# Altium footprint library Connectors.PcbLib: 77 footprints (part 1 of 5)
Each footprint in its own frame and in the unit in brackets; x right, y up, seen from the top. Pads: shape width x height; smd on the part's side, far side on the other; paste and mask are expansions set on the pad; w line width, h text height; cw(c..) or ccw(c..) is an arc to the next point about the centre after c.
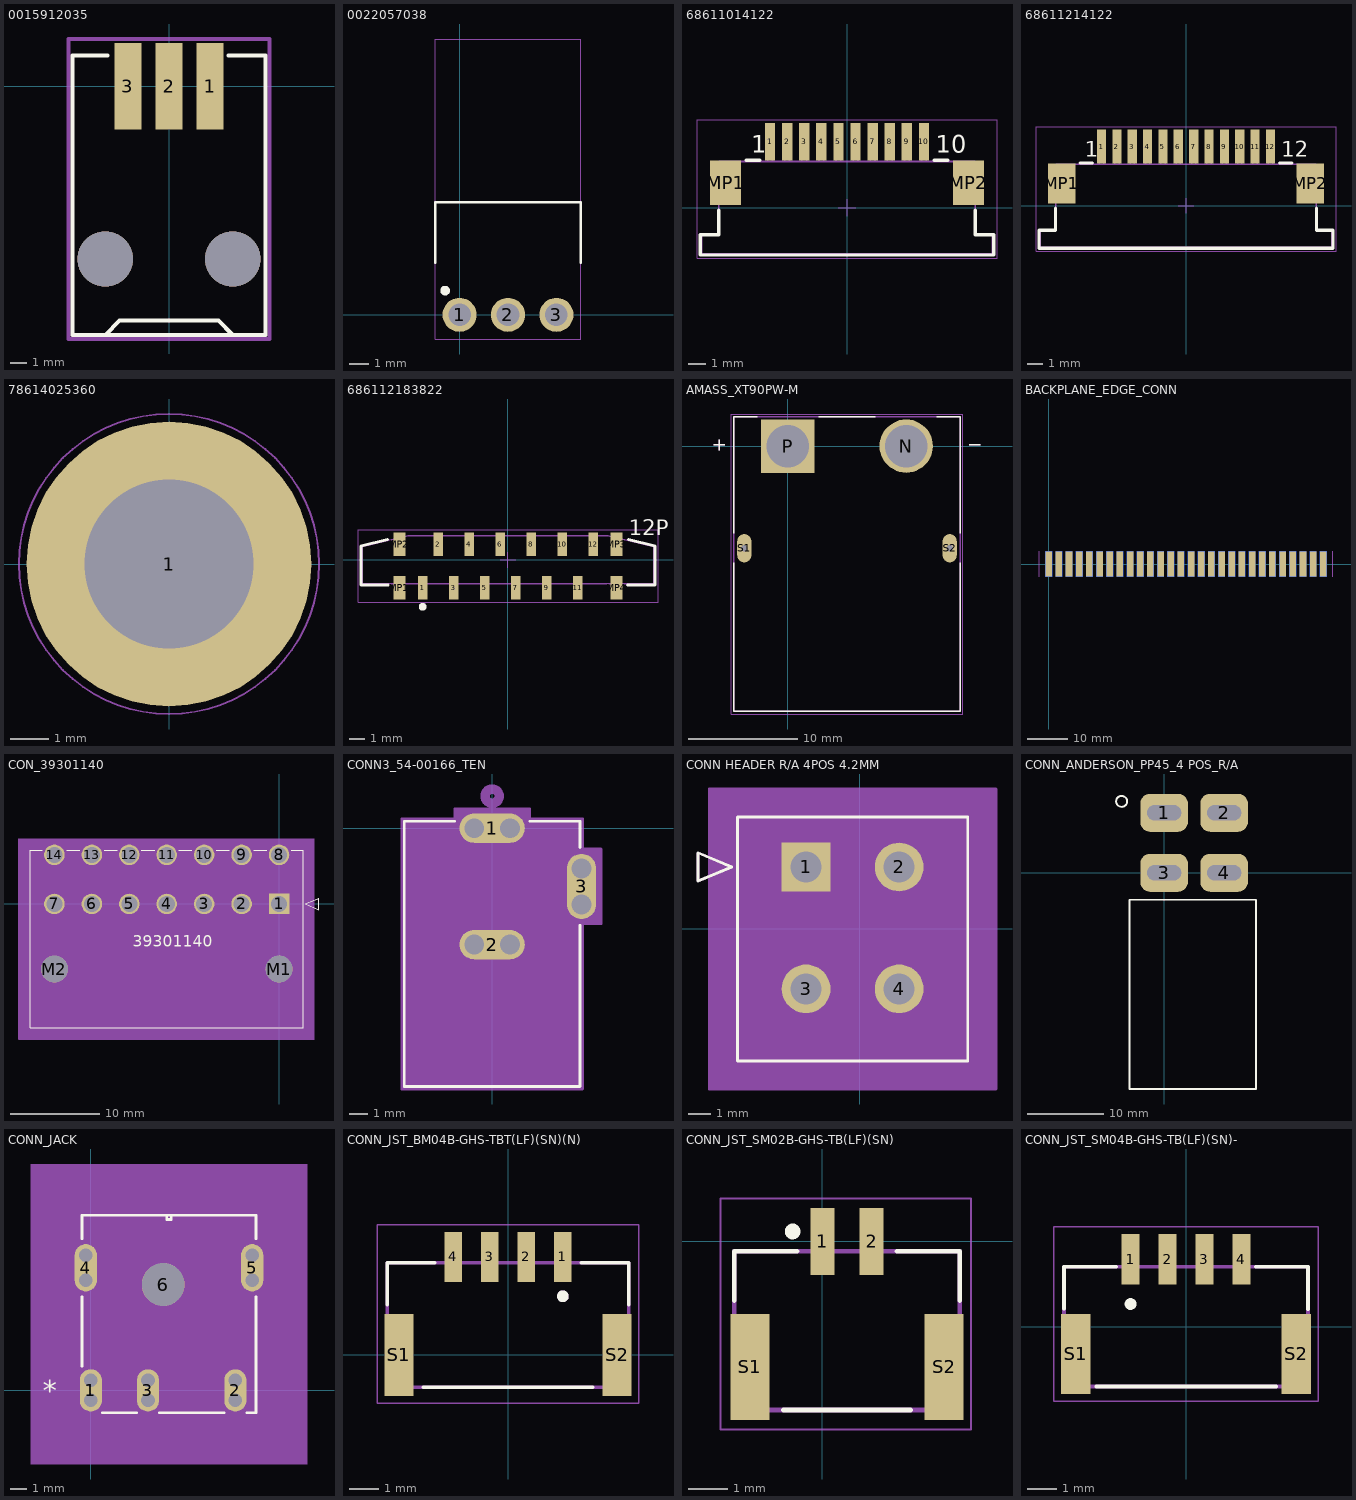
[diagram p0: the footprints below, top view; thin cyan lines are the x and y axes]

## 0015912035 [mm]
pads (3):
  rect 1.65x5.33 smd: 1(2.54,0) 2(0,0) 3(-2.54,0)
via -3.94,-10.69 diameter 3.4 hole 3.4
via 3.94,-10.69 diameter 3.4 hole 3.4
Top Overlay:
  lines w0.254: -3.94,-15.364 -3.934,-15.364 -3.048,-14.478 3.048,-14.478 3.054,-14.478 3.94,-15.364 4.569,-15.364 ; -3.81,1.905 -5.715,1.905 -5.969,1.905 -5.969,-9.779 -5.969,-11.557 -5.969,-15.367 5.969,-15.367 5.969,-11.811 5.969,-9.906 5.969,1.905 3.683,1.905
Boundary:
  lines w0.254: -6.223,-15.621 -6.223,-15.367 -6.223,2.921 6.223,2.921 6.223,-15.621 -6.223,-15.621
3D body "0015912035-rotated.step": height 6.98, standoff -2.31, extent -5.715,-15.088 5.715,1.676

## 0022057038 [mm] "Molex KK 254 Wire-to-Board Header, Right-Angle, w/ Friction Lock, 3 Circuit"
pads (3):
  round 1.79 hole 1.19: 1(0,0) 2(2.54,0) 3(5.08,0)
Top Overlay:
  circle w0.254: c-0.762,1.27 r0.127
  lines w0.127: -1.27,2.72 -1.27,5.9 6.35,5.9 6.35,2.72
Mechanical 15:
  lines w0.05: -1.27,-1.27 6.35,-1.27 6.35,14.478 -1.27,14.478 -1.27,-1.27
3D body "022057038.stp": height 5.85, standoff -3.79, extent -1.27,-0.307 6.35,14.43

## 68611014122 [mm] "ZIF Connectors, Horizontal, Top Contact, pitch 1mm, 10p"
height 3.15
pads (12):
  rect 0.6x2.2 smd: 1(-4.5,3.85) 2(-3.5,3.85) 3(-2.5,3.85) 4(-1.5,3.85) 5(-0.5,3.85) 6(0.5,3.85) 7(1.5,3.85) 8(2.5,3.85) 9(3.5,3.85) 10(4.5,3.85)
  rect 1.8x2.6 smd: MP1(-7.1,1.45) MP2(7.1,1.45)
Top Overlay:
  lines w0.2: -7.5,-0.15 -7.5,-1.6 -8.575,-1.6 -8.575,-2.775 8.575,-2.775 8.575,-1.6 7.5,-1.6 7.5,-0.15 ; -5.9,2.775 -5.1,2.775 ; 5.1,2.775 5.9,2.775
  text "10" at 5.2,3.2 h1.02
  text "1" at -5.6,3.2 h1.02
Mechanical 11:
  lines w0.1: -4.64,2.7 -4.64,4.4 -4.36,4.4 -4.36,2.7 ; -3.64,2.7 -3.64,4.4 -3.36,4.4 -3.36,2.7 ; -2.64,2.7 -2.64,4.4 -2.36,4.4 -2.36,2.7 ; -1.64,2.7 -1.64,4.4 -1.36,4.4 -1.36,2.7 ; -0.64,2.7 -0.64,4.4 -0.36,4.4 -0.36,2.7 ; 0.36,2.7 0.36,4.4 0.64,4.4 0.64,2.7 ; 1.36,2.7 1.36,4.4 1.64,4.4 1.64,2.7 ; 2.36,2.7 2.36,4.4 2.64,4.4 2.64,2.7 ; 3.36,2.7 3.36,4.4 3.64,4.4 3.64,2.7 ; 4.36,2.7 4.36,4.4 4.64,4.4 4.64,2.7 ; -8.5,-2.7 -8.5,-1.6 -7.5,-1.6 -7.5,2.7 7.5,2.7 7.5,-1.6 8.5,-1.6 8.5,-2.7 -8.5,-2.7
  text ".Designator" at -1.75,-0.75 h1.5
Mechanical 13:
  lines w0.1: -4.64,2.7 -4.64,4.4 -4.36,4.4 -4.36,2.7 ; -3.64,2.7 -3.64,4.4 -3.36,4.4 -3.36,2.7 ; -2.64,2.7 -2.64,4.4 -2.36,4.4 -2.36,2.7 ; -1.64,2.7 -1.64,4.4 -1.36,4.4 -1.36,2.7 ; -0.64,2.7 -0.64,4.4 -0.36,4.4 -0.36,2.7 ; 0.36,2.7 0.36,4.4 0.64,4.4 0.64,2.7 ; 1.36,2.7 1.36,4.4 1.64,4.4 1.64,2.7 ; 2.36,2.7 2.36,4.4 2.64,4.4 2.64,2.7 ; 3.36,2.7 3.36,4.4 3.64,4.4 3.64,2.7 ; 4.36,2.7 4.36,4.4 4.64,4.4 4.64,2.7 ; -8.5,-2.7 8.5,-2.7 8.5,-1.6 7.5,-1.6 7.5,2.7 -7.5,2.7 -7.5,-1.6 -8.5,-1.6 -8.5,-2.7
Mechanical 15:
  lines w0.05: -0.5,0 0.5,0 ; 0,-0.5 0,0.5 ; -8.775,-2.975 8.775,-2.975 8.775,5.15 -8.775,5.15 -8.775,-2.975
3D body "68611014122.stp": height 3.02, standoff 0.02, extent -8.5,-2.7 8.5,4.4

## 68611214122 [mm] "ZIF Connectors, Horizontal, Top Contact, pitch 1mm, 12p"
height 3.15
pads (14):
  rect 0.6x2.2 smd: 1(-5.5,3.85) 2(-4.5,3.85) 3(-3.5,3.85) 4(-2.5,3.85) 5(-1.5,3.85) 6(-0.5,3.85) 7(0.5,3.85) 8(1.5,3.85) 9(2.5,3.85) 10(3.5,3.85) 11(4.5,3.85) 12(5.5,3.85)
  rect 1.8x2.6 smd: MP1(-8.1,1.45) MP2(8.1,1.45)
Top Overlay:
  lines w0.2: -8.5,-0.15 -8.5,-1.6 -9.575,-1.6 -9.575,-2.775 9.575,-2.775 9.575,-1.6 8.5,-1.6 8.5,-0.15 ; -6.9,2.775 -6.1,2.775 ; 6.1,2.775 6.9,2.775
  text "12" at 6.2,3.2 h1.02
  text "1" at -6.6,3.2 h1.02
Mechanical 11:
  lines w0.1: -5.64,2.7 -5.64,4.4 -5.36,4.4 -5.36,2.7 ; -4.64,2.7 -4.64,4.4 -4.36,4.4 -4.36,2.7 ; -3.64,2.7 -3.64,4.4 -3.36,4.4 -3.36,2.7 ; -2.64,2.7 -2.64,4.4 -2.36,4.4 -2.36,2.7 ; -1.64,2.7 -1.64,4.4 -1.36,4.4 -1.36,2.7 ; -0.64,2.7 -0.64,4.4 -0.36,4.4 -0.36,2.7 ; 0.36,2.7 0.36,4.4 0.64,4.4 0.64,2.7 ; 1.36,2.7 1.36,4.4 1.64,4.4 1.64,2.7 ; 2.36,2.7 2.36,4.4 2.64,4.4 2.64,2.7 ; 3.36,2.7 3.36,4.4 3.64,4.4 3.64,2.7 ; 4.36,2.7 4.36,4.4 4.64,4.4 4.64,2.7 ; 5.36,2.7 5.36,4.4 5.64,4.4 5.64,2.7 ; -9.5,-2.7 9.5,-2.7 9.5,-1.6 8.5,-1.6 8.5,2.7 -8.5,2.7 -8.5,-1.6 -9.5,-1.6 -9.5,-2.7
  text ".Designator" at -1.75,-0.75 h1.5
Mechanical 13:
  lines w0.1: -5.64,2.7 -5.64,4.4 -5.36,4.4 -5.36,2.7 ; -4.64,2.7 -4.64,4.4 -4.36,4.4 -4.36,2.7 ; -3.64,2.7 -3.64,4.4 -3.36,4.4 -3.36,2.7 ; -2.64,2.7 -2.64,4.4 -2.36,4.4 -2.36,2.7 ; -1.64,2.7 -1.64,4.4 -1.36,4.4 -1.36,2.7 ; -0.64,2.7 -0.64,4.4 -0.36,4.4 -0.36,2.7 ; 0.36,2.7 0.36,4.4 0.64,4.4 0.64,2.7 ; 1.36,2.7 1.36,4.4 1.64,4.4 1.64,2.7 ; 2.36,2.7 2.36,4.4 2.64,4.4 2.64,2.7 ; 3.36,2.7 3.36,4.4 3.64,4.4 3.64,2.7 ; 4.36,2.7 4.36,4.4 4.64,4.4 4.64,2.7 ; 5.36,2.7 5.36,4.4 5.64,4.4 5.64,2.7 ; -9.5,-2.7 -9.5,-1.6 -8.5,-1.6 -8.5,2.7 8.5,2.7 8.5,-1.6 9.5,-1.6 9.5,-2.7 -9.5,-2.7
Mechanical 15:
  lines w0.05: -0.5,0 0.5,0 ; 0,-0.5 0,0.5 ; -9.775,-2.975 -9.775,5.15 9.775,5.15 9.775,-2.975 -9.775,-2.975
3D body "68611214122.stp": height 3.02, standoff 0.02, extent -9.5,-2.7 9.5,4.4

## 78614025360 [mm] "M3 Thread Internal, Length 2.5mm"
height 2.5
pads (1):
  round 7.4 hole 4.4: 1(0,0)
Top Paste:
  region: -3.613,0.4 -2.204,0.4 -2.167,0.566 -2.057,0.886 -1.9,1.186 -1.699,1.46 -1.46,1.699 -1.186,1.9 -0.886,2.057 -0.566,2.167 -0.4,2.204 -0.4,3.613 -0.603,3.59 -1.003,3.5 -1.389,3.365 -1.758,3.188 -2.105,2.97 -2.425,2.715 -2.715,2.426 -2.97,2.106 -3.188,1.759 -3.365,1.39 -3.5,1.003 -3.59,0.604 -3.613,0.4
  region: -0.4,-3.613 -0.4,-2.204 -0.566,-2.167 -0.886,-2.057 -1.186,-1.9 -1.46,-1.699 -1.699,-1.46 -1.9,-1.186 -2.057,-0.886 -2.167,-0.566 -2.204,-0.4 -3.613,-0.4 -3.59,-0.603 -3.5,-1.003 -3.365,-1.389 -3.188,-1.758 -2.97,-2.105 -2.715,-2.425 -2.426,-2.715 -2.106,-2.97 -1.759,-3.188 -1.39,-3.365 -1.003,-3.5 -0.604,-3.59 -0.4,-3.613
  region: 3.613,-0.4 2.204,-0.4 2.167,-0.566 2.057,-0.886 1.9,-1.186 1.699,-1.46 1.46,-1.699 1.186,-1.9 0.886,-2.057 0.566,-2.167 0.4,-2.204 0.4,-3.613 0.603,-3.59 1.003,-3.5 1.389,-3.365 1.758,-3.188 2.105,-2.97 2.425,-2.715 2.715,-2.426 2.97,-2.106 3.188,-1.759 3.365,-1.39 3.5,-1.003 3.59,-0.604 3.613,-0.4
  region: 0.4,3.613 0.4,2.204 0.566,2.167 0.886,2.057 1.186,1.9 1.46,1.699 1.699,1.46 1.9,1.186 2.057,0.886 2.167,0.566 2.204,0.4 3.613,0.4 3.59,0.603 3.5,1.003 3.365,1.389 3.188,1.758 2.97,2.105 2.715,2.425 2.426,2.715 2.106,2.97 1.759,3.188 1.39,3.365 1.003,3.5 0.604,3.59 0.4,3.613
Top 3D Body:
  circle w0.1: c0,0 r3
Top Courtyard:
  circle w0.05: c0,0 r3.9
  lines w0.05: -0.5,0 0.5,0 ; 0,-0.5 0,0.5
Top Component Outline:
  circle w0.1: c0,0 r3
Top Designator:
  text ".Designator" at -7.498,-0.5 h1.5
3D body "78614025360.stp": height 2.5, standoff -1.4, extent -3,-3 3,3

## 686112183822 [mm] "ZIF Connectors, Vertical, Type A, pitch 1mm, 12p"
height 4
pads (16):
  rect 0.6x1.5 smd: 1(-5.5,-1.8) 2(-4.5,1) 3(-3.5,-1.8) 4(-2.5,1) 5(-1.5,-1.8) 6(-0.5,1) 7(0.5,-1.8) 8(1.5,1) 9(2.5,-1.8) 10(3.5,1) 11(4.5,-1.8) 12(5.5,1)
  rect 0.8x1.5 smd: MP1(-7,-1.8) MP2(-7,1) MP3(7,1) MP4(7,-1.8)
Top Overlay:
  circle w0.25: c-5.5,-3.025 r0.125
  lines w0.2: -7.765,1.308 -9.475,0.897 -9.475,-1.625 -7.725,-1.625 ; 7.725,-1.625 9.475,-1.625 9.475,0.897 7.765,1.308
  text "12P" at 7.8,1.6 h1.02
Mechanical 11:
  lines w0.1: -7.2,-1.55 -7.2,-2.05 -6.8,-2.05 -6.8,-1.55 ; -6.45,1.55 6.45,1.55 9.4,0.84 9.4,-1.55 -9.4,-1.55 -9.4,0.84 -6.45,1.549 ; -5.6,-1.55 -5.6,-2.05 -5.4,-2.05 -5.4,-1.55 ; -3.6,-1.55 -3.6,-2.05 -3.4,-2.05 -3.4,-1.55 ; -1.6,-1.55 -1.6,-2.05 -1.4,-2.05 -1.4,-1.55 ; 0.4,-1.55 0.4,-2.05 0.6,-2.05 0.6,-1.55 ; 2.4,-1.55 2.4,-2.05 2.6,-2.05 2.6,-1.55 ; 4.4,-1.55 4.4,-2.05 4.6,-2.05 4.6,-1.55 ; 6.8,-1.55 6.8,-2.05 7.2,-2.05 7.2,-1.55
  text ".Designator" at -1.75,-0.75 h1.5
Mechanical 13:
  lines w0.1: -7.2,-1.55 -7.2,-2.05 -6.8,-2.05 -6.8,-1.55 ; -6.45,1.55 6.45,1.55 9.4,0.84 9.4,-1.55 -9.4,-1.55 -9.4,0.84 -6.45,1.549 ; -5.6,-1.55 -5.6,-2.05 -5.4,-2.05 -5.4,-1.55 ; -3.6,-1.55 -3.6,-2.05 -3.4,-2.05 -3.4,-1.55 ; -1.6,-1.55 -1.6,-2.05 -1.4,-2.05 -1.4,-1.55 ; 0.4,-1.55 0.4,-2.05 0.6,-2.05 0.6,-1.55 ; 2.4,-1.55 2.4,-2.05 2.6,-2.05 2.6,-1.55 ; 4.4,-1.55 4.4,-2.05 4.6,-2.05 4.6,-1.55 ; 6.8,-1.55 6.8,-2.05 7.2,-2.05 7.2,-1.55
Mechanical 15:
  lines w0.05: -0.5,0 0.5,0 ; 0,-0.5 0,0.5 ; -9.675,-2.75 -9.675,1.95 9.675,1.95 9.675,-2.75 -9.675,-2.75
3D body "686112183822.stp": height 4, standoff -0.02, extent -9.4,-2.05 9.4,1.55

## AMASS_XT90PW-M [mm]
pads (4):
  round 4.916 hole 3.9: N(10.9,0)
  rect 4.916x4.916 / inner round 4.916 / far side rect 4.916x4.916 hole 3.9: P(0,0)
  oval 1.3x2.6 hole 0.6 square: S1(-4,-9.4) S2(14.9,-9.4)
Top Overlay:
  lines w0.127: -6.8,0.1 -5.8,0.1 ; -6.3,-0.4 -6.3,0.6 ; -4.95,-10.75 -4.95,-24.4 15.85,-24.4 15.85,-10.75 ; -4.95,-8 -4.95,2.7 -2.8,2.7 ; 2.85,2.7 8.05,2.7 ; 13.7,2.7 15.85,2.7 15.85,-8 ; 16.7,0.1 17.7,0.1
Mechanical 13:
  lines w0.127: -6.8,0.1 -5.8,0.1 ; -6.3,-0.4 -6.3,0.6 ; 16.7,0.1 17.7,0.1 ; -4.95,-24.4 -4.95,2.7 15.85,2.7 15.85,-24.4 -4.95,-24.4
Mechanical 15:
  lines w0.05: -5.2,-24.65 -5.2,2.95 16.1,2.95 16.1,-24.65 -5.2,-24.65
3D body "step_temp.STEP": height 10.3, standoff -3.2, extent -5.15,-24.4 16.05,2.7

## BACKPLANE_EDGE_CONN [mil]
pads (56):
  rect 65x250 smd far side: 1(0,0) 2(100,0) 3(200,0) 4(300,0) 5(400,0) 6(500,0) 7(600,0) 8(700,0) 9(800,0) 10(900,0) 11(1000,0) 12(1100,0) 13(1200,0) 14(1300,0) 15(1400,0) 16(1500,0) 17(1600,0) 18(1700,0) 19(1800,0) 20(1900,0) 21(2000,0) 22(2100,0) 23(2200,0) 24(2300,0) 25(2400,0) 26(2500,0) 27(2600,0) 28(2700,0)
  rect 65x250 smd: 29(2700,0) 30(2600,0) 31(2500,0) 32(2400,0) 33(2300,0) 34(2200,0) 35(2100,0) 36(2000,0) 37(1900,0) 38(1800,0) 39(1700,0) 40(1600,0) 41(1500,0) 42(1400,0) 43(1300,0) 44(1200,0) 45(1100,0) 46(1000,0) 47(900,0) 48(800,0) 49(700,0) 50(600,0) 51(500,0) 52(400,0) 53(300,0) 54(200,0) 55(100,0) 56(0,0)
Mechanical 1:
  lines w10: -93,-125 -93,125 ; 2793,-125 2793,125

## CON_39301140 [mm]
pads (16):
  rect 2.3x2.3 hole 1.8 mask+0.076: 1(0,0)
  round 2.3 hole 1.8 mask+0.076: 2(-4.2,0) 3(-8.4,0) 4(-12.6,0) 5(-16.8,0) 6(-21,0) 7(-25.2,0) 8(0,5.5) 9(-4.2,5.5) 10(-8.4,5.5) 11(-12.6,5.5) 12(-16.8,5.5) 13(-21,5.5) 14(-25.2,5.5)
  round 3 hole 3 unplated mask+0.076: M1(0,-7.3) M2(-25.2,-7.3)
Top Overlay:
  lines w0.127: -26.569,6.035 -27.9,6.035 -27.9,-13.9 2.7,-13.9 2.7,6.035 1.369,6.035 ; -23.831,6.035 -22.369,6.035 ; -19.631,6.035 -18.169,6.035 ; -15.431,6.035 -13.969,6.035 ; -11.231,6.035 -9.769,6.035 ; -7.031,6.035 -5.569,6.035 ; -2.831,6.035 -1.369,6.035 ; 2.954,0 4.478,-0.635 4.478,0.635 2.954,0
  text "39301140" at -16.41,-4.821 h1.27
Mechanical 13:
  lines w0.127: -27.9,-13.9 -27.9,6.035 2.7,6.035 2.7,-13.9 -27.9,-13.9 ; 2.954,0 4.478,-0.635 4.478,0.635 2.954,0
  text "39301140" at -16.383,-4.826 h1.27
Mechanical 15:
  region: 3.97,7.305 -29.17,7.305 -29.17,-15.17 3.97,-15.17
  lines w0.127: -29.17,-15.17 3.97,-15.17 3.97,7.305 -29.17,7.305 -29.17,-15.17
3D body: height 0.25, standoff 0, extent 0,0 0.254,0.254

## CONN3_54-00166_TEN [mil]
pads (9):
  oval 138x62 smd paste+0 mask+0: 1(0,0) 2(0,-246.06)
  oval 62x138 smd paste-69 mask-69: 3(188.98,-123.03)
  round 42 / inner round 60 / far side round 42 hole 42 unplated paste-99999 mask-21: S_1_H1(38,0) S_1_H2(-38,0) S_2_H1(38,-246.06) S_2_H2(-38,-246.06) S_3_H1(188.98,-85.03) S_3_H2(188.98,-161.03)
Top Overlay:
  lines w6: -79.53,14.84 -186,14.84 -186,-546.34 186,-546.34 186,-205.03 ; 79.53,14.84 186,14.84 186,-41.03
Bottom Overlay:
  circle w20: c211,2.87 r15
Mechanical 13:
  circle w20: c0,67.87 r15
  lines w1: -181,-541.34 -181,9.84 181,9.84 181,-541.34 -181,-541.34
Mechanical 15:
  region: 191,-44.03 191,19.84 79,19.84 79,41 -79,41 -79,19.84 -191,19.84 -191,-551.34 191,-551.34 191,-202.03 229.98,-202.03 229.98,-44.03
  lines w6: -191,-551.34 191,-551.34 191,-202.03 229.98,-202.03 229.98,-44.03 191,-44.03 191,19.84 79,19.84 79,41 -79,41 -79,19.84 -191,19.84 -191,-551.34
Multi-Layer:
  lines w42: -38,-246.06 38,-246.06 ; -38,0 38,0 ; 188.98,-161.03 188.98,-85.03

## CONN HEADER R/A 4POS 4.2MM [mm] "CONN HEADER R/A 4POS 4.2MM"
pads (4):
  rect 2.2x2.2 / inner round 1.524 / far side rect 2.2x2.2 hole 1.4 paste-2539.97 mask+0.076: 1(-2.413,2.794)
  round 2.2 / inner round 1.524 / far side round 2.2 hole 1.4 paste-2539.97 mask+0.076: 2(1.787,2.794) 3(-2.413,-2.706) 4(1.787,-2.706)
Top Overlay:
  lines w0.127: -7.291,2.159 -7.291,3.429 -5.767,2.794 -7.291,2.159 ; -5.513,-5.956 -5.513,5.044 4.887,5.044 4.887,-5.956 -5.513,-5.956
Mechanical 13:
  lines w0.127: -7.291,2.159 -7.291,3.429 -5.767,2.794 -7.291,2.159 ; -5.513,-5.956 4.887,-5.956 4.887,5.044 -5.513,5.044 -5.513,-5.956
Mechanical 15:
  region: 6.157,6.314 -6.783,6.314 -6.783,-7.226 6.157,-7.226
  lines w0.127: -6.783,-7.226 -6.783,6.314 6.157,6.314 6.157,-7.226 -6.783,-7.226

## CONN_ANDERSON_PP45_4 POS_R/A [mm] "Anderson Powerpole45 2x2 Red/Black"
pads (4):
  rrect50% 6.25x5 hole 2 slot 4.5 at 0 deg: 1(0,7.9) 2(7.9,7.9) 3(0,0) 4(7.9,0)
Top Overlay:
  circle w0.254: c-5.588,9.398 r0.718
  lines w0.254: -4.572,-28.448 12.065,-28.448 12.065,-3.548 -4.572,-3.548 -4.572,-28.448
3D body "Anderson 2x2 PP45 RA.step": height 16.17, standoff -5.75, extent -4.318,-28.26 11.836,8.448

## CONN_JACK [mil] "54-00127"
pads (16):
  oval 52x99 smd paste+0 mask+0: 1(0,0) 2(338.58,0) 3(133.86,0)
  oval 52x111 smd: 4(-11.81,287.4) 5(377.95,287.4)
  round 100 hole 100 unplated: 6(169.29,248.03)
  round 32 hole 32 unplated: S_1_H1(0,23.5) S_1_H2(0,-23.5) S_2_H1(338.58,23.5) S_2_H2(338.58,-23.5) S_3_H1(133.86,23.5) S_3_H2(133.86,-23.5) S_4_H1(-11.81,316.9) S_4_H2(-11.81,257.9) S_5_H1(377.95,316.9) S_5_H2(377.95,257.9)
Top Overlay:
  lines w6: -20.75,56.64 -20.75,219.83 ; -20.75,354.96 -20.75,410.51 386.89,410.51 386.89,354.96 ; 26.24,-52.49 107.62,-52.49 ; 160.1,-52.49 312.35,-52.49 ; 364.82,-52.49 386.89,-52.49 386.89,219.83 ; 178.07,400.51 178.07,410.51 188.07,410.51 188.07,400.51 178.07,400.51
  text "*" at -112.5,-25 h50
Mechanical 5:
  region: -140.75,530.51 506.89,530.51 506.89,-172.49 -140.75,-172.49
Mechanical 13:
  lines w1: -15.75,-47.49 -15.75,405.51 381.89,405.51 381.89,-47.49 -15.75,-47.49
  text "*" at -112.5,-25 h50
Mechanical 15:
  region: 391.89,-57.49 391.89,415.51 -25.75,415.51 -25.75,-57.49
  lines w6: -25.75,-57.49 391.89,-57.49 391.89,415.51 -25.75,415.51 -25.75,-57.49
Multi-Layer:
  lines w32: -11.81,257.9 -11.81,316.9 ; 0,-23.5 0,23.5 ; 133.86,-23.5 133.86,23.5 ; 338.58,-23.5 338.58,23.5 ; 377.95,257.9 377.95,316.9
3D body: height 10, standoff 0, extent 0,0 10,10

## CONN_JST_BM04B-GHS-TBT(LF)(SN)(N) [mm] "JST GH Pitch 4 Pos Vertical"
pads (6):
  rect 0.6x1.7 smd: 1(1.875,3.35) 2(0.625,3.35) 3(-0.625,3.35) 4(-1.875,3.35)
  rect 1x2.8 smd: S1(-3.725,0) S2(3.725,0)
Top Overlay:
  circle w0.2: c1.875,2.006 r0.1
  lines w0.127: -4.125,1.72 -4.125,3.15 -2.5,3.15 ; -2.9,-1.1 2.9,-1.1 ; 2.5,3.15 4.125,3.15 4.125,1.72
Mechanical 13:
  circle w0.2: c1.875,2.006 r0.1
  lines w0.127: -4.125,-1.1 -4.125,3.15 4.125,3.15 4.125,-1.1 -4.125,-1.1
Mechanical 15:
  lines w0.05: -4.475,-1.65 -4.475,4.45 4.475,4.45 4.475,-1.65 -4.475,-1.65
3D body "BM04B-GHS-TBT(LF)(SN)(N)--3DModel-STEP-46669.STEP": height 4.15, standoff 0, extent -4.125,-1.125 4.125,3.825

## CONN_JST_SM02B-GHS-TB(LF)(SN) [mm] "JST GH Pitch 2 Pos R/A"
pads (4):
  rect 0.6x1.7 smd: 1(0,0) 2(1.25,0)
  rect 1x2.7 smd: S1(-1.85,-3.2) S2(3.1,-3.2)
Top Overlay:
  circle w0.2: c-0.762,0.254 r0.1
  lines w0.127: -2.25,-1.5 -2.25,-0.25 -0.65,-0.25 ; -1,-4.3 2.25,-4.3 ; 1.9,-0.25 3.5,-0.25 3.5,-1.5
Mechanical 13:
  circle w0.2: c0.075,0.4 r0.1
  lines w0.127: -2.25,-4.3 3.5,-4.3 3.5,-0.25 -2.25,-0.25 -2.25,-4.3
Mechanical 15:
  lines w0.05: -2.6,-4.8 3.79,-4.8 3.79,1.1 -2.6,1.1 -2.6,-4.8
3D body "SM02B-GHS-TB.stp": height 4.26, standoff -0.04, extent -2.245,-4.275 3.505,0.575

## CONN_JST_SM04B-GHS-TB(LF)(SN)- [mm] "JST GH Pitch 4 Pos R/A"
pads (6):
  rect 0.6x1.7 smd: 1(-1.875,2.275) 2(-0.625,2.275) 3(0.625,2.275) 4(1.875,2.275)
  rect 1x2.7 smd: S1(-3.725,-0.925) S2(3.725,-0.925)
Top Overlay:
  circle w0.2: c-1.875,0.762 r0.1
  lines w0.127: -4.125,0.605 -4.125,2.025 -2.36,2.025 ; -3.04,-2.025 3.05,-2.025 ; 2.36,2.025 4.125,2.025 4.125,0.595
Mechanical 13:
  circle w0.2: c-1.8,2.675 r0.1
  lines w0.127: -4.125,-2.025 4.125,-2.025 4.125,2.025 -4.125,2.025 -4.125,-2.025
Mechanical 15:
  lines w0.05: -4.475,-2.525 4.475,-2.525 4.475,3.375 -4.475,3.375 -4.475,-2.525
3D body "SM04B-GHS-TB(LF)(SN)---3DModel-STEP-56544.STEP": height 4.35, standoff 0, extent -4.125,-2 4.125,2.85